# Altium footprint library FP-Modules.PcbLib: 2 footprints
Each footprint in its own frame and in the unit in brackets; x right, y up, seen from the top. Pads: shape width x height; smd on the part's side, far side on the other; paste and mask are expansions set on the pad; w line width, h text height; cw(c..) or ccw(c..) is an arc to the next point about the centre after c.
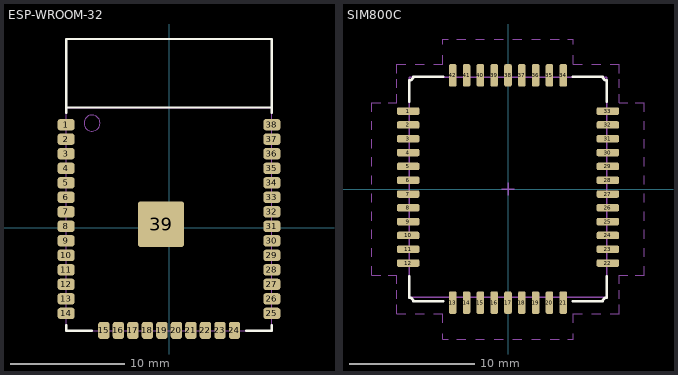
[diagram p0: the footprints below, top view; thin cyan lines are the x and y axes]

## ESP-WROOM-32 [mm] "25.5x18.0mm"
height 2.9
pads (39):
  rrect50% 1.5x1 smd: 1(-9,9) 2(-9,7.73) 3(-9,6.46) 4(-9,5.19) 5(-9,3.92) 6(-9,2.65) 7(-9,1.38) 8(-9,0.11) 9(-9,-1.16) 10(-9,-2.43) 11(-9,-3.7) 12(-9,-4.97) 13(-9,-6.24) 14(-9,-7.51) 25(9,-7.51) 26(9,-6.24) 27(9,-4.97) 28(9,-3.7) 29(9,-2.43) 30(9,-1.16) 31(9,0.11) 32(9,1.38) 33(9,2.65) 34(9,3.92) 35(9,5.19) 36(9,6.46) 37(9,7.73) 38(9,9)
  rrect50% 1x1.5 smd: 15(-5.7,-9) 16(-4.43,-9) 17(-3.16,-9) 18(-1.89,-9) 19(-0.62,-9) 20(0.65,-9) 21(1.92,-9) 22(3.19,-9) 23(4.46,-9) 24(5.73,-9)
  rrect10% 4x4 smd: 39(-0.7,0.3)
Top Overlay:
  lines w0.2: -9,-8.526 -9,-9.017 -6.731,-9.017 ; -9,10.05 -9,10.5 ; 6.731,-9.017 9,-9.017 9,-8.526 ; 9,10.05 9,10.5 ; -9,10.5 -9,16.5 9,16.5 9,10.5 ; -9,10.5 9,10.5
Top Courtyard:
  lines w0.1: -0.534,0.041 0.466,0.041 ; -0.034,-0.459 -0.034,0.541
Top Assembly:
  circle w0.1: c-6.731,9.144 r0.7
  lines w0.1: -9,10.5 -9,-9.017 9,-9.017 9,10.5 ; -9,10.5 9,10.5 ; -9,10.5 -9,16.5 9,16.5 9,10.5
  text "'.Designator'" at 0.254,0.762 h1.52
3D body "ESP-32 .step": height 2.66, standoff -0.05, extent -8.95,-8.967 8.95,16.433

## SIM800C [mm]
pads (42):
  rrect50% 1.8x0.6 smd: 1(-7.95,6.2) 2(-7.95,5.1) 3(-7.95,4) 4(-7.95,2.9) 5(-7.95,1.8) 6(-7.95,0.7) 7(-7.95,-0.4) 8(-7.95,-1.5) 9(-7.95,-2.6) 10(-7.95,-3.7) 11(-7.95,-4.8) 12(-7.95,-5.9) 22(7.95,-5.9) 23(7.95,-4.8) 24(7.95,-3.7) 25(7.95,-2.6) 26(7.95,-1.5) 27(7.95,-0.4) 28(7.95,0.7) 29(7.95,1.8) 30(7.95,2.9) 31(7.95,4) 32(7.95,5.1) 33(7.95,6.2)
  rrect50% 0.6x1.8 smd: 13(-4.4,-9.052) 14(-3.3,-9.052) 15(-2.2,-9.052) 16(-1.1,-9.052) 17(0,-9.052) 18(1.1,-9.052) 19(2.2,-9.052) 20(3.3,-9.052) 21(4.4,-9.052) 34(4.4,9.051) 35(3.3,9.051) 36(2.2,9.051) 37(1.1,9.051) 38(0,9.051) 39(-1.1,9.051) 40(-2.2,9.051) 41(-3.3,9.051) 42(-4.4,9.051)
Top Overlay:
  lines w0.2: -7.85,-6.946 -7.85,-8.65 cw(c-7.85,-8.95) -7.55,-8.95 -5.146,-8.95 ; -7.85,6.946 -7.85,8.65 ccw(c-7.85,8.95) -7.55,8.95 -5.146,8.95 ; 5.146,-8.95 7.55,-8.95 cw(c7.85,-8.95) 7.85,-8.65 7.85,-6.946 ; 5.146,8.95 7.55,8.95 ccw(c7.85,8.95) 7.85,8.65 7.85,6.946
Top Paste:
  rectangle: 4.08,2.33 6.23,7.28
Top Courtyard:
  lines w0.05: -10.85,-6.146 -10.85,-6.85 -10.146,-6.85 ; -10.85,-5.406 -10.85,-4.702 ; -10.85,-3.962 -10.85,-3.258 ; -10.85,-2.518 -10.85,-1.814 ; -10.85,-1.074 -10.85,-0.37 ; -10.85,0.37 -10.85,1.074 ; -10.85,1.814 -10.85,2.518 ; -10.85,3.258 -10.85,3.962 ; -10.85,4.702 -10.85,5.406 ; -10.85,6.146 -10.85,6.85 -10.146,6.85 ; -9.554,-6.85 -8.85,-6.85 -8.85,-7.554 ; -9.554,6.85 -8.85,6.85 -8.85,7.554 ; -8.85,-9.237 -8.85,-9.941 -8.146,-9.941 ; -8.85,-8.748 -8.85,-8.043 ; -8.85,8.043 -8.85,8.748 ; -8.85,9.237 -8.85,9.941 -8.146,9.941 ; -7.375,-9.941 -6.671,-9.941 ; -7.375,9.941 -6.671,9.941 ; -5.9,-9.941 -5.196,-9.941 -5.196,-10.646 ; -5.9,9.941 -5.196,9.941 -5.196,10.646 ; -5.2,-11.512 -5.2,-11.946 -4.767,-11.946 ; -5.2,11.512 -5.2,11.946 -4.767,11.946 ; -4.062,-11.946 -3.358,-11.946 ; -4.062,11.946 -3.358,11.946 ; -2.578,-11.946 -1.874,-11.946 ; -2.578,11.946 -1.874,11.946 ; -1.094,-11.946 -0.39,-11.946 ; -1.094,11.946 -0.39,11.946 ; 0.39,-11.946 1.094,-11.946 ; 0.39,11.946 1.094,11.946 ; 1.874,-11.946 2.578,-11.946 ; 1.874,11.946 2.578,11.946 ; 3.358,-11.946 4.062,-11.946 ; 3.358,11.946 4.062,11.946 ; 4.767,-11.946 5.2,-11.946 5.2,-11.512 ; 4.767,11.946 5.2,11.946 5.2,11.512 ; 5.196,-10.646 5.196,-9.941 5.9,-9.941 ; 5.196,10.646 5.196,9.941 5.9,9.941 ; 6.671,-9.941 7.375,-9.941 ; 6.671,9.941 7.375,9.941 ; 8.146,-9.941 8.85,-9.941 8.85,-9.237 ; 8.146,9.941 8.85,9.941 8.85,9.237 ; 8.85,-8.748 8.85,-8.043 ; 8.85,-7.554 8.85,-6.85 9.554,-6.85 ; 8.85,7.554 8.85,6.85 9.554,6.85 ; 8.85,8.043 8.85,8.748 ; 10.146,-6.85 10.85,-6.85 10.85,-6.146 ; 10.146,6.85 10.85,6.85 10.85,6.146 ; 10.85,-5.406 10.85,-4.702 ; 10.85,-3.962 10.85,-3.258 ; 10.85,-2.518 10.85,-1.814 ; 10.85,-1.074 10.85,-0.37 ; 10.85,0.37 10.85,1.074 ; 10.85,1.814 10.85,2.518 ; 10.85,3.258 10.85,3.962 ; 10.85,4.702 10.85,5.406
  lines w0.1: -0.5,0 0.5,0 ; 0,-0.5 0,0.5
Top Assembly:
  lines w0.1: -7.874,-8.636 -7.874,8.89 7.874,8.89 7.874,-8.636 -7.874,-8.636
  text "'.Designator'" at 0.254,0.762 h1.52
3D body "User Library-SIM800C-1.STEP": height 2.33, standoff -0.01, extent -7.85,-8.65 7.85,8.95